# EAGLE library part SBH11-PBPC-D04 (library con-sullins)
HEADER - Vertical, Shrouded
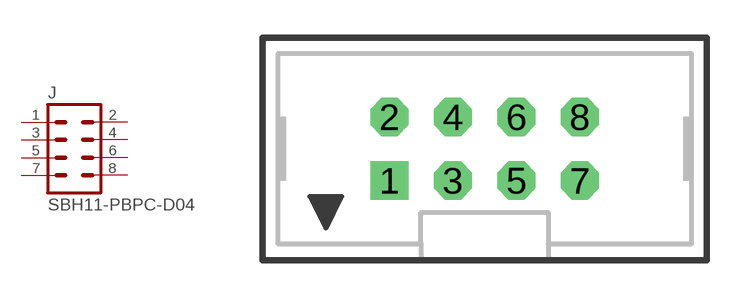
[diagram p40: symbol with the pads of SBH11-PBPC-D04; footprint SBH11-PBPC-D04]

Designator prefix J

## SBH11-PBPC-D04  [SBH11-PBPC-D04]
1  1  pas
2  2  pas
3  3  pas
4  4  pas
5  5  pas
6  6  pas
7  7  pas
8  8  pas

## Footprint SBH11-PBPC-D04 (pad centres in mm)
HEADER - 0.1", Shrouded, Vertical
drill 1.016 square: 1 -3.81,-1.27
drill 1.016 octagon: 2 -3.81,1.27; 3 -1.27,-1.27; 4 -1.27,1.27; 5 1.27,-1.27; 6 1.27,1.27; 7 3.81,-1.27; 8 3.81,1.27